# Altium footprint library M4QIDB-PCB-01.PcbLib: 64 footprints (part 3 of 4)
Each footprint in its own frame and in the unit in brackets; x right, y up, seen from the top. Pads: shape width x height; smd on the part's side, far side on the other; paste and mask are expansions set on the pad; w line width, h text height; cw(c..) or ccw(c..) is an arc to the next point about the centre after c.
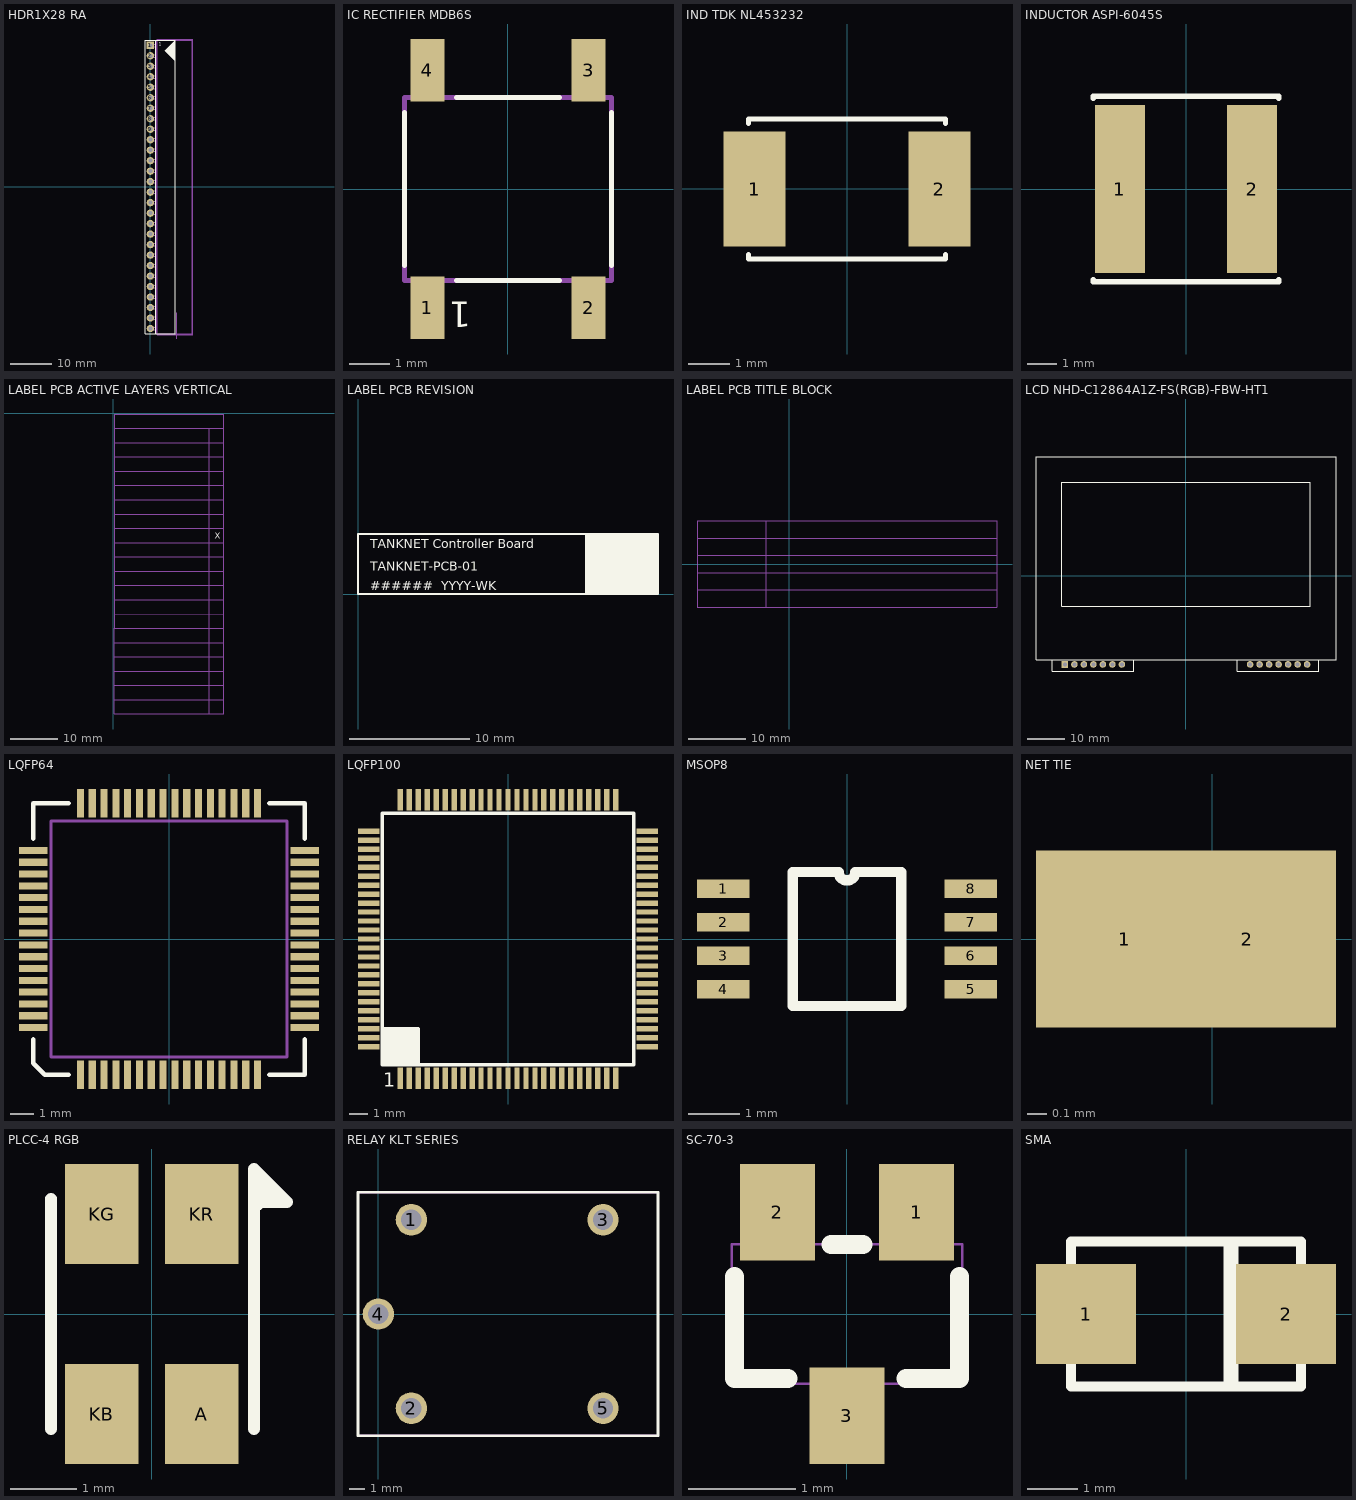
[diagram p2: the footprints below, top view; thin cyan lines are the x and y axes]

## HDR1X28 RA [mil]
pads (28):
  rect 70x70 hole 38: 1(0,1350)
  round 70 hole 38: 2(0,1250) 3(0,1150) 4(0,1050) 5(0,950) 6(0,850) 7(0,750) 8(0,650) 9(0,550) 10(0,450) 11(0,350) 12(0,250) 13(0,150) 14(0,50) 15(0,-50) 16(0,-150) 17(0,-250) 18(0,-350) 19(0,-450) 20(0,-550) 21(0,-650) 22(0,-750) 23(0,-850) 24(0,-950) 25(0,-1050) 26(0,-1150) 27(0,-1250) 28(0,-1350)
Top Overlay:
  region: 236.22,1400.2 236.22,1199.41 134.84,1299.8
  lines w7: -50,1400 -50,-1400 236.22,-1400 236.22,1400.2 -50,1400.07 ; 50,-1400 50,1400
  text "1" at 80.71,1347.64 h30
Mechanical 5:
  lines w7: 250,-1450 250,-1200 ; 62.99,-1400 397.64,-1400 397.64,1400 62.99,1400 62.99,-1400
  text "BOARD EDGE" at 43.31,-1438.58 h20
Mechanical 7:
  drawing of 233 lines, arcs and shapes, not listed
3D body: height 66, standoff -132, extent -8,-162 8,-138
3D body: height 66, standoff -132, extent -8,-1362 8,-1338
3D body: height 66, standoff -132, extent -8,-1262 8,-1238
3D body: height 66, standoff -132, extent -8,-1162 8,-1138
3D body: height 66, standoff -132, extent -8,-1062 8,-1038
3D body: height 66, standoff -132, extent -8,-962 8,-938
3D body: height 66, standoff -132, extent -8,-862 8,-838
3D body: height 66, standoff -132, extent -8,-762 8,-738
3D body: height 66, standoff -132, extent -8,-662 8,-638
3D body: height 66, standoff -132, extent -8,-562 8,-538
3D body: height 66, standoff -132, extent -8,-462 8,-438
3D body: height 66, standoff -132, extent -8,-362 8,-338
3D body: height 66, standoff -132, extent -8,-362 8,-338
3D body: height 66, standoff -132, extent -8,-262 8,-238
3D body: height 66, standoff 42, extent 8.01,-1061.99 63.81,-1037.99
3D body: height 66, standoff 42, extent 8,-1162 63.8,-1138
3D body: height 66, standoff 42, extent 8,-962 63.8,-938
3D body: height 66, standoff 42, extent 8.01,-861.99 63.81,-837.99
3D body: height 66, standoff 42, extent 8.01,-761.99 63.81,-737.99
3D body: height 66, standoff 42, extent 8.01,-661.99 63.81,-637.99
3D body: height 66, standoff 42, extent 8.01,-561.99 63.81,-537.99
3D body: height 66, standoff 42, extent 8.01,-461.99 63.81,-437.99
3D body: height 66, standoff 42, extent 8.01,-361.99 63.81,-337.99
3D body: height 66, standoff 42, extent 8.01,-261.99 63.81,-237.99
3D body: height 66, standoff 42, extent 8,-1362 63.8,-1338
3D body: height 66, standoff 42, extent 8.01,-1261.99 63.81,-1237.99
3D body: height 66, standoff 42, extent 8.01,-61.99 63.81,-37.99
3D body: height 66, standoff 42, extent 8,-162 63.8,-138
3D body: height 66, standoff -132, extent -7.99,-61.99 8.01,-37.99
3D body: height 108, standoff 0, extent 63.8,-1410 404.8,1410
3D body: height 66, standoff 42, extent 8.01,1338.01 63.81,1362.01
3D body: height 66, standoff 42, extent 8.01,1238.01 63.81,1262.01
3D body: height 66, standoff 42, extent 8.01,1138.01 63.81,1162.01
3D body: height 66, standoff 42, extent 8.01,1038.01 63.81,1062.01
3D body: height 66, standoff 42, extent 8.01,938.01 63.81,962.01
3D body: height 66, standoff 42, extent 8.01,838.01 63.81,862.01
3D body: height 66, standoff 42, extent 8.01,738.01 63.81,762.01
3D body: height 66, standoff 42, extent 8.01,638.01 63.81,662.01
3D body: height 66, standoff 42, extent 8.01,538.01 63.81,562.01
3D body: height 66, standoff 42, extent 8.01,438.01 63.81,462.01
3D body: height 66, standoff 42, extent 8.01,338.01 63.81,362.01
3D body: height 66, standoff 42, extent 8,238 63.8,262
3D body: height 66, standoff -132, extent -7.99,1338.01 8.01,1362.01
3D body: height 66, standoff -132, extent -7.99,1238.01 8.01,1262.01
3D body: height 66, standoff -132, extent -7.99,1138.01 8.01,1162.01
3D body: height 66, standoff -132, extent -7.99,1038.01 8.01,1062.01
3D body: height 66, standoff -132, extent -7.99,938.01 8.01,962.01
3D body: height 66, standoff -132, extent -7.99,838.01 8.01,862.01
3D body: height 66, standoff -132, extent -7.99,738.01 8.01,762.01
3D body: height 66, standoff -132, extent -7.99,638.01 8.01,662.01
3D body: height 66, standoff -132, extent -7.99,538.01 8.01,562.01
3D body: height 66, standoff -132, extent -7.99,438.01 8.01,462.01
3D body: height 66, standoff -132, extent -7.99,338.01 8.01,362.01
3D body: height 66, standoff -132, extent -8,238 8,262
3D body: height 66, standoff -132, extent -8,38 8,62
3D body: height 66, standoff -132, extent -7.99,138.01 8.01,162.01
3D body: height 66, standoff 42, extent 8,38 63.8,62
3D body: height 66, standoff 42, extent 8.01,138.01 63.81,162.01

## IC RECTIFIER MDB6S [mm]
pads (4):
  rect 0.85x1.55 smd: 1(-2,-2.95) 2(2,-2.95) 3(2,2.95) 4(-2,2.95)
Top Overlay:
  lines w0.127: -2.575,-1.9 -2.575,1.9 ; -1.275,-2.275 1.275,-2.275 ; -1.275,2.275 1.275,2.275 ; 2.575,-1.9 2.575,1.9
  text "1" at -0.914,-2.794 h0.64
Mechanical 7:
  lines w0.127: -2.575,-2.275 -2.575,2.275 2.575,2.275 2.575,-2.275 -2.575,-2.275
3D body: height 1.46, standoff 1.45, extent -2.273,-1.899 -1.675,-1.3
3D body: height 1.45, standoff 0, extent -2.575,-2.275 2.575,2.275

## IND TDK NL453232 [mm]
height 3.4
pads (2):
  rect 1.5x2.8 smd: 1(-2.25,-0.003) 2(2.25,-0.003)
Top Overlay:
  lines w0.127: -2.4,-1.603 -2.4,-1.703 2.4,-1.703 2.4,-1.603 ; -2.4,1.6 -2.4,1.7 2.4,1.7 2.4,1.6
3D body: height 3.4, standoff 0, extent -2.4,-1.703 2.4,1.7

## INDUCTOR ASPI-6045S [mm]
height 4.5
pads (2):
  rect 1.7x5.7 smd: 1(-2.25,0) 2(2.25,0)
Top Overlay:
  lines w0.178: -3.15,-3.075 -3.15,-3.15 3.15,-3.15 3.15,-3.075 ; -3.15,3.075 -3.15,3.15 3.15,3.15 3.15,3.075

## LABEL PCB ACTIVE LAYERS VERTICAL [mm]
Top Layer:
  text "X" at 21.255,-5.323 h1.27
Bottom Layer:
  text "X" at 21.255,-20.323 h1.27
Top Overlay:
  text "X" at 21.255,-26.324 h1.27
Bottom Overlay:
  text "X" at 21.255,-29.324 h1.27
Top Paste:
  text "X" at 21.255,-32.324 h1.27
Bottom Paste:
  text "X" at 21.255,-35.324 h1.27
Top Solder:
  text "X" at 21.255,-38.325 h1.27
Bottom Solder:
  text "X" at 21.255,-41.325 h1.27
Keep-Out Layer:
  text "X" at 21.255,-62.326 h1.27
Mechanical 1:
  text "X" at 21.255,-44.325 h1.27
Mechanical 2:
  lines w0.178: 0.173,-60.138 23.173,-60.138 ; 0.173,-57.138 23.173,-57.138 ; 0.173,-54.138 23.173,-54.138 ; 0.173,-51.138 23.173,-51.138 ; 0.173,-48.138 23.173,-48.138 ; 0.173,-42.138 23.173,-42.138 ; 0.173,-39.138 23.173,-39.138 ; 0.173,-36.138 23.173,-36.138 ; 0.173,-33.138 23.173,-33.138 ; 0.173,-27.138 23.173,-27.138 ; 0.173,-24.138 23.173,-24.138 ; 0.173,-21.138 23.173,-21.138 ; 0.173,-18.138 23.173,-18.138 ; 0.173,-12.138 23.173,-12.138 ; 0.173,-9.138 23.173,-9.138 ; 0.173,-6.138 23.173,-6.138 ; 0.173,-3.138 23.173,-3.138 ; 20.173,-63.138 20.173,-3.138 ; 23.173,-45.138 0.173,-45.138 ; 23.173,-30.138 0.173,-30.138 ; 23.173,-15.138 0.173,-15.138 ; 0.173,-45.138 0.173,-63.138 23.173,-63.138 23.173,-0.138 0.173,-0.138 ; 0.173,-45.138 0.173,-45.138 ; 0.173,-45.138 0.173,-30.138 ; 0.173,-30.138 0.173,-30.138 ; 0.173,-30.138 0.173,-15.138 ; 0.173,-15.138 0.173,-15.138 ; 0.173,-15.138 0.173,-0.138 ; 0.173,-0.138 0.173,-0.138
  text "Mechanical6" at 1.189,-59.265 h1.27
  text "Mechanical5" at 1.189,-56.265 h1.27
  text "Midlayer3" at 1.189,-14.138 h1.27
  text "MidLayer4" at 1.189,-17.138 h1.27
  text "MidLayer1" at 1.189,-8.138 h1.27
  text "MidLayer2" at 1.189,-11.138 h1.27
  text "Top Layer" at 1.189,-5.138 h1.27
  text "Active PCB Layers" at 1.173,-2.138 h1.27
  text "Bottom Layer" at 1.189,-20.138 h1.27
  text "Mechanical2" at 1.189,-47.246 h1.27
  text "Mechanical1" at 1.189,-44.246 h1.27
  text "Mechanical3" at 1.189,-50.246 h1.27
  text "Mechanical4" at 1.189,-53.246 h1.27
  text "Top Overlay" at 1.189,-26.223 h1.27
  text "Top Paste" at 1.189,-32.223 h1.27
  text "Bottom Overlay" at 1.189,-29.223 h1.27
  text "Bottom Paste" at 1.189,-35.223 h1.27
  text "Top Solder" at 1.189,-38.223 h1.27
  text "Bottom Solder" at 1.189,-41.223 h1.27
  text "Multi-layer" at 1.189,-23.372 h1.27
  text "Keep-Out Layer" at 1.189,-62.282 h1.27
  text "X" at 21.255,-47.325 h1.27
Mechanical 3:
  text "X" at 21.255,-50.325 h1.27
Mechanical 4:
  text "X" at 21.255,-53.326 h1.27
Mechanical 5:
  text "X" at 21.255,-56.326 h1.27
Mechanical 6:
  text "X" at 21.255,-59.326 h1.27
Multi-Layer:
  text "X" at 21.255,-23.324 h1.27

## LABEL PCB REVISION [mm]
Top Overlay:
  rectangle: 18.925,0.049 24.975,4.924
  lines w0.178: 25,0 0,0 0,5 25,5
  lines w0.179: 25,0 25,5
  text "TANKNET-PCB-01" at 1,1.925 h0.76
  text "TANKNET Controller Board" at 1,3.805 h0.76
  text "######  YYYY-WK" at 1,0.3 h0.76

## LABEL PCB TITLE BLOCK [mm]
Mechanical 2:
  lines w0.178: -16,-4.5 36,-4.5 ; -16,-1.5 36,-1.5 ; -16,1.5 36,1.5 ; -16,4.5 36,4.5 ; -4,-7.5 -4,7.5 ; -16,7.5 -16,-7.5 36,-7.5 36,7.5 -16,7.5 ; -16,7.5 -16,7.5
  text "Title:" at -15,5.5 h1.27
  text "Number:" at -15,2.5 h1.27
  text "Date:" at -15,-3.5 h1.27
  text "Revision:" at -15,-0.5 h1.27
  text "Author:" at -15,-6.5 h1.27

## LCD NHD-C12864A1Z-FS(RGB)-FBW-HT1 [mil]
pads (14):
  rect 70x70 hole 42: 1(-1274.8,-933.07)
  round 70 hole 42: 2(-1174.8,-933.07) 3(-1074.8,-933.07) 4(-974.8,-933.07) 5(-874.8,-933.07) 6(-774.8,-933.07) 7(-674.8,-933.07) 8(674.8,-933.07) 9(774.8,-933.07) 10(874.8,-933.07) 11(974.8,-933.07) 12(1074.8,-933.07) 13(1174.8,-933.07) 14(1274.8,-933.07)
Top Overlay:
  lines w7: -1409.45,-1003.94 -1409.45,-885.83 ; -551.18,-1003.94 -551.18,-885.83 ; 540.16,-1003.94 540.16,-885.83 ; 1398.43,-1003.94 1398.43,-885.83 ; -1578.74,-885.83 1578.74,-885.83 1578.74,1251.97 -1578.74,1251.97 -1578.74,-885.83 ; -1309.45,-321.65 -1309.45,987.01 1309.45,987.01 1309.45,-321.65 -1309.45,-321.65
  lines w8: -1409.45,-1003.94 -551.18,-1003.94 ; 540.16,-1003.94 1398.43,-1003.94

## LQFP64 [mm]
pads (64):
  rect 0.3x1.2 smd: 1(-3.75,-5.75) 2(-3.25,-5.75) 3(-2.75,-5.75) 4(-2.25,-5.75) 5(-1.75,-5.75) 6(-1.25,-5.75) 7(-0.75,-5.75) 8(-0.25,-5.75) 9(0.25,-5.75) 10(0.75,-5.75) 11(1.25,-5.75) 12(1.75,-5.75) 13(2.25,-5.75) 14(2.75,-5.75) 15(3.25,-5.75) 16(3.75,-5.75) 33(3.75,5.75) 34(3.25,5.75) 35(2.75,5.75) 36(2.25,5.75) 37(1.75,5.75) 38(1.25,5.75) 39(0.75,5.75) 40(0.25,5.75) 41(-0.25,5.75) 42(-0.75,5.75) 43(-1.25,5.75) 44(-1.75,5.75) 45(-2.25,5.75) 46(-2.75,5.75) 47(-3.25,5.75) 48(-3.75,5.75)
  rect 1.2x0.3 smd: 17(5.75,-3.75) 18(5.75,-3.25) 19(5.75,-2.75) 20(5.75,-2.25) 21(5.75,-1.75) 22(5.75,-1.25) 23(5.75,-0.75) 24(5.75,-0.25) 25(5.75,0.25) 26(5.75,0.75) 27(5.75,1.25) 28(5.75,1.75) 29(5.75,2.25) 30(5.75,2.75) 31(5.75,3.25) 32(5.75,3.75) 49(-5.75,3.75) 50(-5.75,3.25) 51(-5.75,2.75) 52(-5.75,2.25) 53(-5.75,1.75) 54(-5.75,1.25) 55(-5.75,0.75) 56(-5.75,0.25) 57(-5.75,-0.25) 58(-5.75,-0.75) 59(-5.75,-1.25) 60(-5.75,-1.75) 61(-5.75,-2.25) 62(-5.75,-2.75) 63(-5.75,-3.25) 64(-5.75,-3.75)
Top Overlay:
  lines w0.2: -5.75,-4.25 -5.75,-5.25 -5.25,-5.75 -4.25,-5.75 ; -5.75,4.25 -5.75,5.75 -4.25,5.75 ; 4.25,-5.75 5.75,-5.75 5.75,-4.25 ; 4.25,5.75 5.75,5.75 5.75,4.25
Mechanical 7:
  lines w0.127: -5,-5 5,-5 5,5 -5,5 -5,-5
3D body: height 0.4, standoff 0, extent 3.6,-5.95 3.9,-5.29
3D body: height 0.8, standoff 0.4, extent 3.6,-5.66 3.9,-5
3D body: height 0.8, standoff 0.4, extent 3.1,-5.66 3.4,-5
3D body: height 0.4, standoff 0, extent 3.1,-5.95 3.4,-5.29
3D body: height 0.8, standoff 0.4, extent 2.6,-5.66 2.9,-5
3D body: height 0.4, standoff 0, extent 2.6,-5.95 2.9,-5.29
3D body: height 0.8, standoff 0.4, extent 2.1,-5.66 2.4,-5
3D body: height 0.4, standoff 0, extent 2.1,-5.95 2.4,-5.29
3D body: height 0.8, standoff 0.4, extent 1.6,-5.66 1.9,-5
3D body: height 0.4, standoff 0, extent 1.6,-5.95 1.9,-5.29
3D body: height 0.4, standoff 0, extent -0.9,-5.95 -0.6,-5.29
3D body: height 0.8, standoff 0.4, extent -0.9,-5.66 -0.6,-5
3D body: height 0.4, standoff 0, extent -0.4,-5.95 -0.1,-5.29
3D body: height 0.8, standoff 0.4, extent -0.4,-5.66 -0.1,-5
3D body: height 0.4, standoff 0, extent 0.1,-5.95 0.4,-5.29
3D body: height 0.8, standoff 0.4, extent 0.1,-5.66 0.4,-5
3D body: height 0.4, standoff 0, extent 0.6,-5.95 0.9,-5.29
3D body: height 0.8, standoff 0.4, extent 0.6,-5.66 0.9,-5
3D body: height 0.8, standoff 0.4, extent 1.1,-5.66 1.4,-5
3D body: height 0.4, standoff 0, extent 1.1,-5.95 1.4,-5.29
3D body: height 0.4, standoff 0, extent -3.4,-5.95 -3.1,-5.29
3D body: height 0.8, standoff 0.4, extent -3.4,-5.66 -3.1,-5
3D body: height 0.4, standoff 0, extent -2.9,-5.95 -2.6,-5.29
3D body: height 0.8, standoff 0.4, extent -2.9,-5.66 -2.6,-5
3D body: height 0.4, standoff 0, extent -2.4,-5.95 -2.1,-5.29
3D body: height 0.8, standoff 0.4, extent -2.4,-5.66 -2.1,-5
3D body: height 0.4, standoff 0, extent -1.9,-5.95 -1.6,-5.29
3D body: height 0.8, standoff 0.4, extent -1.9,-5.66 -1.6,-5
3D body: height 0.8, standoff 0.4, extent -1.4,-5.66 -1.1,-5
3D body: height 0.4, standoff 0, extent -1.4,-5.95 -1.1,-5.29
3D body: height 0.8, standoff 0.4, extent -3.9,-5.66 -3.6,-5
3D body: height 0.4, standoff 0, extent -3.9,-5.95 -3.6,-5.29
3D body: height 0.4, standoff 0, extent -5.95,-3.9 -5.29,-3.6
3D body: height 0.8, standoff 0.4, extent -5.66,-3.9 -5,-3.6
3D body: height 0.8, standoff 0.4, extent -5.66,-3.4 -5,-3.1
3D body: height 0.4, standoff 0, extent -5.95,-3.4 -5.29,-3.1
3D body: height 0.8, standoff 0.4, extent -5.66,-2.9 -5,-2.6
3D body: height 0.4, standoff 0, extent -5.95,-2.9 -5.29,-2.6
3D body: height 0.8, standoff 0.4, extent -5.66,-2.4 -5,-2.1
3D body: height 0.4, standoff 0, extent -5.95,-2.4 -5.29,-2.1
3D body: height 0.8, standoff 0.4, extent -5.66,-1.9 -5,-1.6
3D body: height 0.4, standoff 0, extent -5.95,-1.9 -5.29,-1.6
3D body: height 0.4, standoff 0, extent -5.95,0.6 -5.29,0.9
3D body: height 0.8, standoff 0.4, extent -5.66,0.6 -5,0.9
3D body: height 0.4, standoff 0, extent -5.95,0.1 -5.29,0.4
3D body: height 0.8, standoff 0.4, extent -5.66,0.1 -5,0.4
3D body: height 0.4, standoff 0, extent -5.95,-0.4 -5.29,-0.1
3D body: height 0.8, standoff 0.4, extent -5.66,-0.4 -5,-0.1
3D body: height 0.4, standoff 0, extent -5.95,-0.9 -5.29,-0.6
3D body: height 0.8, standoff 0.4, extent -5.66,-0.9 -5,-0.6
3D body: height 0.8, standoff 0.4, extent -5.66,-1.4 -5,-1.1
3D body: height 0.4, standoff 0, extent -5.95,-1.4 -5.29,-1.1
3D body: height 0.4, standoff 0, extent -5.95,3.1 -5.29,3.4
3D body: height 0.8, standoff 0.4, extent -5.66,3.1 -5,3.4
3D body: height 0.4, standoff 0, extent -5.95,2.6 -5.29,2.9
3D body: height 0.8, standoff 0.4, extent -5.66,2.6 -5,2.9
3D body: height 0.4, standoff 0, extent -5.95,2.1 -5.29,2.4
3D body: height 0.8, standoff 0.4, extent -5.66,2.1 -5,2.4
3D body: height 0.4, standoff 0, extent -5.95,1.6 -5.29,1.9
3D body: height 0.8, standoff 0.4, extent -5.66,1.6 -5,1.9
3D body: height 0.8, standoff 0.4, extent -5.66,1.1 -5,1.4
3D body: height 0.4, standoff 0, extent -5.95,1.1 -5.29,1.4
3D body: height 0.8, standoff 0.4, extent -5.66,3.6 -5,3.9
3D body: height 0.4, standoff 0, extent -5.95,3.6 -5.29,3.9
3D body: height 0.4, standoff 0, extent 5.29,-3.9 5.95,-3.6
3D body: height 0.8, standoff 0.4, extent 5,-3.9 5.66,-3.6
3D body: height 0.4, standoff 0, extent 3.6,5.29 3.9,5.95
3D body: height 0.8, standoff 0.4, extent 3.6,5 3.9,5.66
3D body: height 0.4, standoff 0, extent 5.29,-1.4 5.95,-1.1
3D body: height 0.8, standoff 0.4, extent 5,-1.4 5.66,-1.1
3D body: height 0.8, standoff 0.4, extent 5,-1.9 5.66,-1.6
3D body: height 0.4, standoff 0, extent 5.29,-1.9 5.95,-1.6
3D body: height 0.8, standoff 0.4, extent 5,-2.4 5.66,-2.1
3D body: height 0.4, standoff 0, extent 5.29,-2.4 5.95,-2.1
3D body: height 0.8, standoff 0.4, extent 5,-2.9 5.66,-2.6
3D body: height 0.4, standoff 0, extent 5.29,-2.9 5.95,-2.6
3D body: height 0.8, standoff 0.4, extent 5,-3.4 5.66,-3.1
3D body: height 0.4, standoff 0, extent 5.29,-3.4 5.95,-3.1
3D body: height 0.4, standoff 0, extent 5.29,1.1 5.95,1.4
3D body: height 0.8, standoff 0.4, extent 5,1.1 5.66,1.4
3D body: height 0.8, standoff 0.4, extent 5,0.6 5.66,0.9
3D body: height 0.4, standoff 0, extent 5.29,0.6 5.95,0.9
3D body: height 0.8, standoff 0.4, extent 5,0.1 5.66,0.4
3D body: height 0.4, standoff 0, extent 5.29,0.1 5.95,0.4
3D body: height 0.8, standoff 0.4, extent 5,-0.4 5.66,-0.1
3D body: height 0.4, standoff 0, extent 5.29,-0.4 5.95,-0.1
3D body: height 0.8, standoff 0.4, extent 5,-0.9 5.66,-0.6
3D body: height 0.4, standoff 0, extent 5.29,-0.9 5.95,-0.6
3D body: height 0.4, standoff 0, extent 5.29,3.6 5.95,3.9
3D body: height 0.8, standoff 0.4, extent 5,3.6 5.66,3.9
3D body: height 0.8, standoff 0.4, extent 5,3.1 5.66,3.4
3D body: height 0.4, standoff 0, extent 5.29,3.1 5.95,3.4
3D body: height 0.8, standoff 0.4, extent 5,2.6 5.66,2.9
3D body: height 0.4, standoff 0, extent 5.29,2.6 5.95,2.9
3D body: height 0.8, standoff 0.4, extent 5,2.1 5.66,2.4
3D body: height 0.4, standoff 0, extent 5.29,2.1 5.95,2.4
3D body: height 0.8, standoff 0.4, extent 5,1.6 5.66,1.9
3D body: height 0.4, standoff 0, extent 5.29,1.6 5.95,1.9
3D body: height 0.4, standoff 0, extent 1.1,5.29 1.4,5.95
3D body: height 0.8, standoff 0.4, extent 1.1,5 1.4,5.66
3D body: height 0.8, standoff 0.4, extent 1.6,5 1.9,5.66
3D body: height 0.4, standoff 0, extent 1.6,5.29 1.9,5.95
3D body: height 0.8, standoff 0.4, extent 2.1,5 2.4,5.66
3D body: height 0.4, standoff 0, extent 2.1,5.29 2.4,5.95
3D body: height 0.8, standoff 0.4, extent 2.6,5 2.9,5.66
3D body: height 0.4, standoff 0, extent 2.6,5.29 2.9,5.95
3D body: height 0.8, standoff 0.4, extent 3.1,5 3.4,5.66
3D body: height 0.4, standoff 0, extent 3.1,5.29 3.4,5.95
3D body: height 0.4, standoff 0, extent -1.4,5.29 -1.1,5.95
3D body: height 0.8, standoff 0.4, extent -1.4,5 -1.1,5.66
3D body: height 0.8, standoff 0.4, extent -0.9,5 -0.6,5.66
3D body: height 0.4, standoff 0, extent -0.9,5.29 -0.6,5.95
3D body: height 0.8, standoff 0.4, extent -0.4,5 -0.1,5.66
3D body: height 0.4, standoff 0, extent -0.4,5.29 -0.1,5.95
3D body: height 0.8, standoff 0.4, extent 0.1,5 0.4,5.66
3D body: height 0.4, standoff 0, extent 0.1,5.29 0.4,5.95
3D body: height 0.8, standoff 0.4, extent 0.6,5 0.9,5.66
3D body: height 0.4, standoff 0, extent 0.6,5.29 0.9,5.95
3D body: height 0.4, standoff 0, extent -1.9,5.29 -1.6,5.95
3D body: height 0.8, standoff 0.4, extent -1.9,5 -1.6,5.66
3D body: height 0.4, standoff 0, extent -2.4,5.29 -2.1,5.95
3D body: height 0.8, standoff 0.4, extent -2.4,5 -2.1,5.66
3D body: height 0.4, standoff 0, extent -2.9,5.29 -2.6,5.95
3D body: height 0.8, standoff 0.4, extent -2.9,5 -2.6,5.66
3D body: height 0.4, standoff 0, extent -3.4,5.29 -3.1,5.95
3D body: height 0.8, standoff 0.4, extent -3.4,5 -3.1,5.66
3D body: height 1.6, standoff 0, extent -5,-5 5,5
3D body: height 1.61, standoff 1.6, extent -4.421,-4.449 -3.425,-3.451
3D body: height 0.8, standoff 0.4, extent -3.9,5 -3.6,5.66
3D body: height 0.4, standoff 0, extent -3.9,5.29 -3.6,5.95

## LQFP100 [mm]
height 0.002
pads (100):
  rect 0.3x1.2 smd: 1(-6,-7.75) 2(-5.5,-7.75) 3(-5,-7.75) 4(-4.5,-7.75) 5(-4,-7.75) 6(-3.5,-7.75) 7(-3,-7.75) 8(-2.5,-7.75) 9(-2,-7.75) 10(-1.5,-7.75) 11(-1,-7.75) 12(-0.5,-7.75) 13(0,-7.75) 14(0.5,-7.75) 15(1,-7.75) 16(1.5,-7.75) 17(2,-7.75) 18(2.5,-7.75) 19(3,-7.75) 20(3.5,-7.75) 21(4,-7.75) 22(4.5,-7.75) 23(5,-7.75) 24(5.5,-7.75) 25(6,-7.75) 51(6,7.75) 52(5.5,7.75) 53(5,7.75) 54(4.5,7.75) 55(4,7.75) 56(3.5,7.75) 57(3,7.75) 58(2.5,7.75) 59(2,7.75) 60(1.5,7.75) 61(1,7.75) 62(0.5,7.75) 63(0,7.75) 64(-0.5,7.75) 65(-1,7.75) 66(-1.5,7.75) 67(-2,7.75) 68(-2.5,7.75) 69(-3,7.75) 70(-3.5,7.75) 71(-4,7.75) 72(-4.5,7.75) 73(-5,7.75) 74(-5.5,7.75) 75(-6,7.75)
  rect 1.2x0.3 smd: 26(7.75,-6) 27(7.75,-5.5) 28(7.75,-5) 29(7.75,-4.5) 30(7.75,-4) 31(7.75,-3.5) 32(7.75,-3) 33(7.75,-2.5) 34(7.75,-2) 35(7.75,-1.5) 36(7.75,-1) 37(7.75,-0.5) 38(7.75,0) 39(7.75,0.5) 40(7.75,1) 41(7.75,1.5) 42(7.75,2) 43(7.75,2.5) 44(7.75,3) 45(7.75,3.5) 46(7.75,4) 47(7.75,4.5) 48(7.75,5) 49(7.75,5.5) 50(7.75,6) 76(-7.75,6) 77(-7.75,5.5) 78(-7.75,5) 79(-7.75,4.5) 80(-7.75,4) 81(-7.75,3.5) 82(-7.75,3) 83(-7.75,2.5) 84(-7.75,2) 85(-7.75,1.5) 86(-7.75,1) 87(-7.75,0.5) 88(-7.75,0) 89(-7.75,-0.5) 90(-7.75,-1) 91(-7.75,-1.5) 92(-7.75,-2) 93(-7.75,-2.5) 94(-7.75,-3) 95(-7.75,-3.5) 96(-7.75,-4) 97(-7.75,-4.5) 98(-7.75,-5) 99(-7.75,-5.5) 100(-7.75,-6)
Top Overlay:
  rectangle: -7,-7 -5.05,-5
  lines w0.178: -7,-5 -5,-5 -5,-7 ; -7,-7 -7,7 7,7 7,-7 -7,-7
  text "1" at -6.935,-8.221 h0.76

## MSOP8 [mm]
pads (8):
  rect 1.02x0.356 smd: 1(-2.4,0.975) 2(-2.4,0.325) 3(-2.4,-0.325) 4(-2.4,-0.975) 5(2.4,-0.975) 6(2.4,-0.325) 7(2.4,0.325) 8(2.4,0.975)
Top Overlay:
  lines w0.2: -1.055,-1.3 -1.055,1.3 -0.162,1.3 ccw(c0,1.3) 0.162,1.3 1.055,1.3 1.055,-1.3 -1.055,-1.3

## NET TIE [mm]
pads (2):
  rect 0.9x0.9 smd paste-10 mask-10: 1(-0.445,0) 2(0.178,0)

## PLCC-4 RGB [mm]
pads (4):
  rect 1.1x1.5 smd: A(0.75,-1.5) KB(-0.75,-1.5) KG(-0.75,1.5) KR(0.75,1.5)
Top Overlay:
  lines w0.178: -1.511,-1.726 -1.511,1.729 ; 1.537,-1.726 1.537,1.729 1.537,2.174 2.032,1.679 1.627,1.679 ; 1.575,1.627 1.676,1.729 1.676,1.932 ; 1.727,1.83 1.778,1.83
3D body: height 1.7, standoff 0, extent 0.762,0.965 1.5,1.7
3D body: height 2.1, standoff 0.2, extent -1.5,-1.7 1.5,1.7
3D body: height 1.3, standoff 0, extent -1.1,0.902 -0.401,2
3D body: height 1.3, standoff 0, extent 0.4,0.902 1.099,2
3D body: height 1.3, standoff 0, extent -1.1,-2 -0.4,-0.903
3D body: height 2.2, standoff 0.2, extent -1.19,-1.198 1.2,1.198
3D body: height 1.3, standoff 0, extent 0.4,-2 1.1,-0.903

## RELAY KLT SERIES [mm]
height 15.5
pads (5):
  round 2 hole 1.3: 1(2.1,6) 2(2.1,-6) 3(14.3,6) 4(0,0) 5(14.3,-6)
Top Overlay:
  lines w0.178: -1.3,-7.75 -1.3,7.75 17.8,7.75 17.8,-7.75 -1.3,-7.75
Mechanical 7:
  lines w0.127: -1.3,-7.75 17.8,-7.75 17.8,7.75 -1.3,7.75 -1.3,-7.75
3D body: height 15.5, standoff 0, extent -1.3,-7.75 17.8,7.75

## SC-70-3 [mm]
pads (3):
  rect 0.7x0.9 smd paste+0: 1(0.65,0.95) 2(-0.65,0.95) 3(0,-0.95)
Top Overlay:
  lines w0.178: -1.05,0.35 -1.05,-0.6 -0.55,-0.6 ; -0.15,0.65 0.15,0.65 ; 0.55,-0.6 1.05,-0.6 1.05,0.35
Mechanical 7:
  lines w0.025: -0.15,-0.65 -0.15,-0.95 0.15,-0.95 0.15,-0.65 ; -1.075,-0.65 1.075,-0.65 1.075,0.65 -1.075,0.65 -1.075,-0.65
3D body: height 0.18, standoff 0, extent -0.15,-0.95 0.15,-0.65
3D body: height 1.1, standoff 0.1, extent -1.075,-0.65 1.075,0.65
3D body: height 0.18, standoff 0, extent 0.5,0.65 0.8,0.95
3D body: height 0.18, standoff 0, extent -0.8,0.65 -0.5,0.95

## SMA [mm]
pads (2):
  rect 2x2 smd: 1(-2,0) 2(2,0)
Top Overlay:
  lines w0.2: -2.3,-1 -2.3,-1.45 0,-1.45 2.3,-1.45 2.3,-1 ; -2.3,1 -2.3,1.45 0,1.45 2.3,1.45 2.3,1
  lines w0.3: 0.9,-1.35 0.9,1.4
Mechanical 7:
  lines w0.127: -2.795,-0.825 -2.795,0.805 ; 0.9,-1.45 0.9,1.45 ; 2.3,-0.805 2.3,0.825 ; 2.795,-0.805 2.795,0.825 ; -2.3,-1.45 2.3,-1.45 2.3,1.45 -2.3,1.45 -2.3,-1.45
3D body: height 2.21, standoff 2.2, extent 0.8,-1.475 1,1.45
3D body: height 2.2, standoff 0, extent -2.3,-1.45 2.3,1.45
3D body: height 1, standoff 0, extent 2.3,-0.805 2.795,0.825
3D body: height 1, standoff 0, extent -2.795,-0.825 -2.3,0.805